# Altium integrated library SG73S2ETTD332J.IntLib: 1 symbol
Pins are listed as number, name and electrical type; pins without a type are passive.

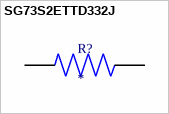
[diagram p0: symbol SG73S2ETTD332J]

## SG73S2ETTD332J
designator R?
MP: SG73S2ETTD332J; Package: None; Price: None; Value: *; Availability: Unavailable
footprint RESC3226X70N
pins: 1, 2